# Altium footprint library Activos.PcbLib: 60 footprints (part 2 of 4)
Each footprint in its own frame and in the unit in brackets; x right, y up, seen from the top. Pads: shape width x height; smd on the part's side, far side on the other; paste and mask are expansions set on the pad; w line width, h text height; cw(c..) or ccw(c..) is an arc to the next point about the centre after c.
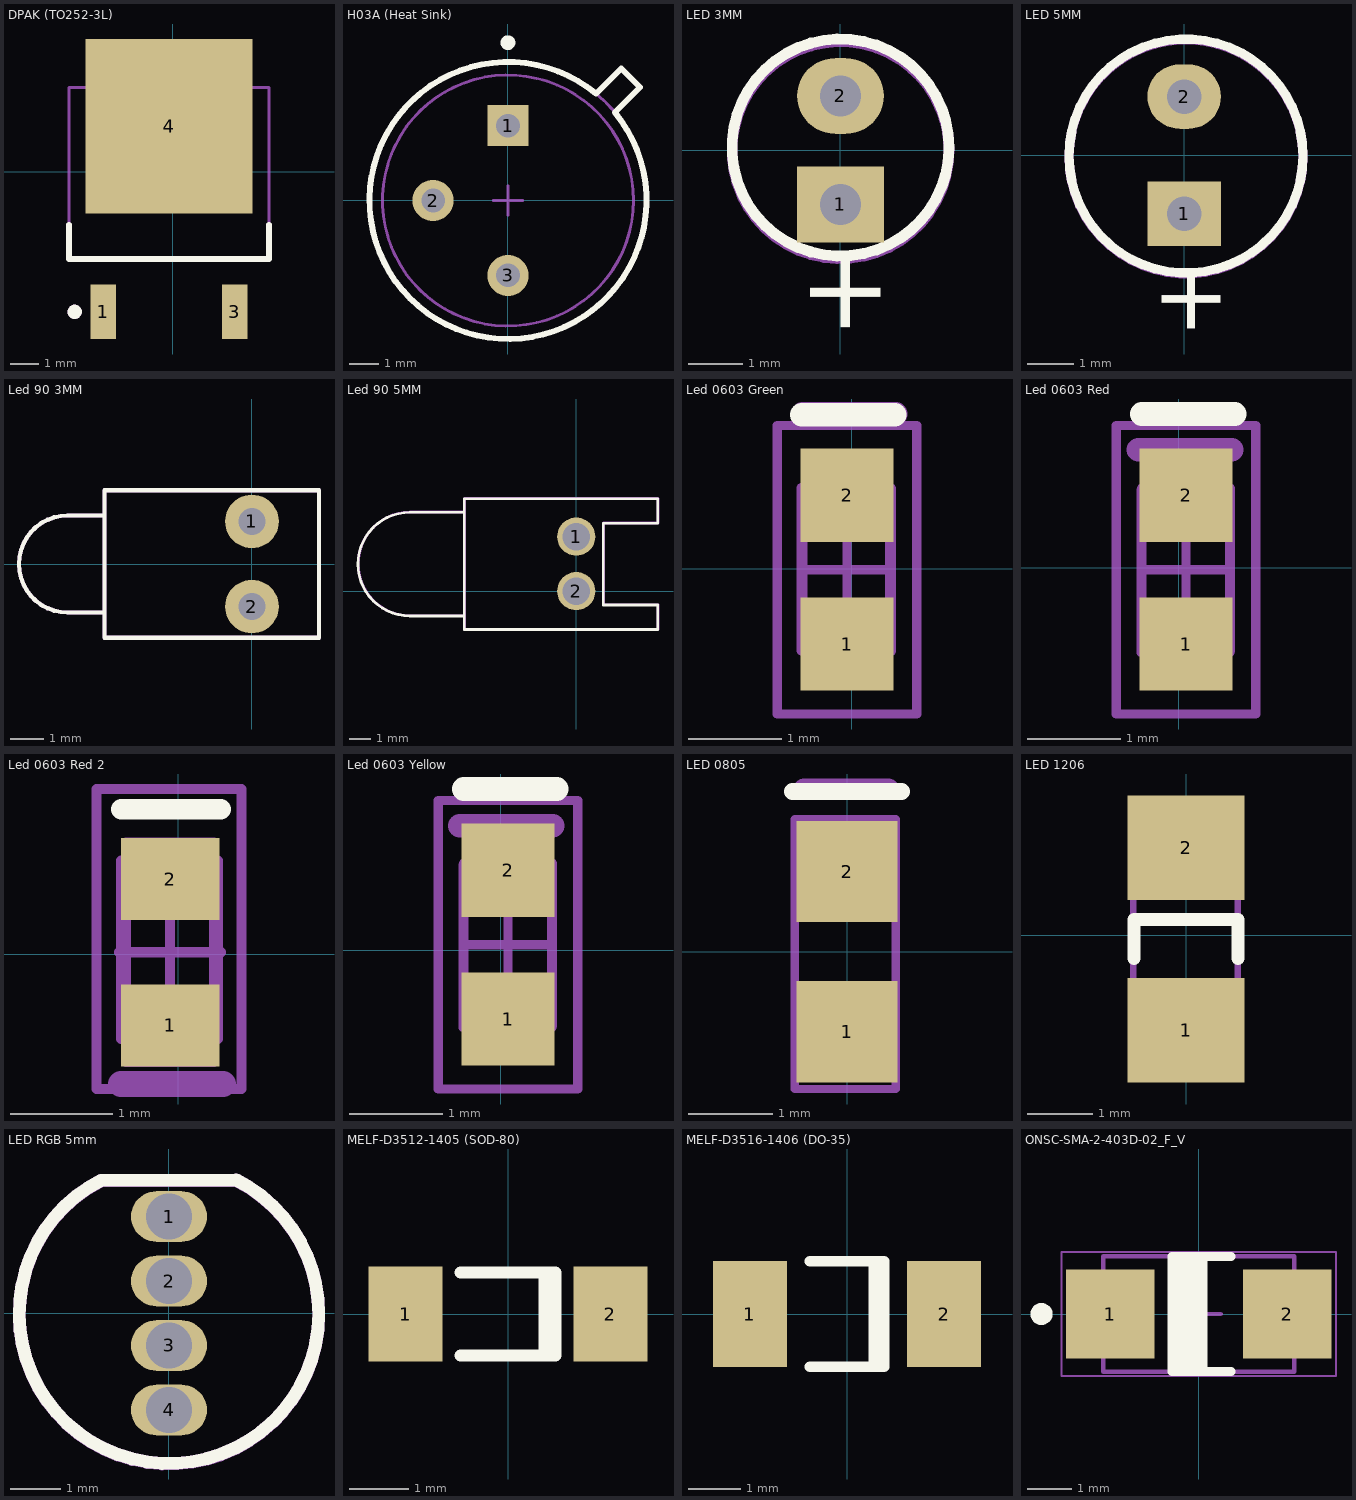
[diagram p1: the footprints below, top view; thin cyan lines are the x and y axes]

## DPAK (TO252-3L) [mm]
pads (3):
  rect 0.9x1.9 smd: 1(-2.433,-4.905) 3(2.167,-4.905)
  rect 5.85x6.1 smd: 4(-0.133,1.595)
Top Overlay:
  circle w0.25: c-3.433,-4.905 r0.125
  lines w0.2: -3.633,-1.855 -3.633,-3.055 3.367,-3.055 3.367,-1.855
Mechanical 15:
  lines w0.1: -0.633,-0.605 0.367,-0.605 ; -0.133,-1.105 -0.133,-0.105
Mechanical 29:
  circle w0.25: c-3.433,-4.905 r0.125
  lines w0.1: -3.633,-3.055 -3.633,2.945 3.367,2.945 3.367,-3.055 -3.633,-3.055
  text "'.Designator'" at -2.94,-2.43 h0.5
3D body "DPAK - TO-369A-13.step": height 2.4, standoff 0, extent -3.468,-5.605 3.132,4.495

## H03A (Heat Sink) [mm]
pads (3):
  rect 1.4x1.4 hole 0.8: 1(0.002,2.531)
  round 1.4 hole 0.8: 2(-2.538,-0.009) 3(0.002,-2.549)
Top Overlay:
  circle w0.25: c0.002,5.341 r0.125
  lines w0.2: 2.989,3.613 ccw(c0.002,-0.009) 3.624,2.978 ; 2.992,3.617 3.84,4.466 4.477,3.829 3.628,2.981
Mechanical 13:
  circle w0.1: c0.002,-0.009 r4.695
  circle w0.1: c0.002,-0.009 r4.255
Mechanical 15:
  lines w0.1: -0.498,-0.009 0.502,-0.009 ; 0.002,-0.509 0.002,0.491
3D body "LM117H & Disipador.STEP": height 10.48, standoff -9.74, extent -6.028,-5.991 5.968,6.009

## LED 3MM [mm]
pads (2):
  rect 1.6x1.4 hole 0.75: 1(0,-1)
  oval 1.6x1.4 hole 0.75: 2(0,1)
Top Overlay:
  circle w0.2: c0,0.05 r2
  text "+" at 0.74,-3.48 h1.5
Mechanical 29:
  circle w0.2: c0,0 r2
  text "'.Designator'" at -1.656,-0.091 h0.5
  text "+" at 0.74,-3.53 h1.5
3D body "LEDd3R.STEP": height 5.51, standoff -2.49, extent -1.701,-1.679 1.587,1.621

## LED 5MM [mm]
pads (2):
  rect 1.6x1.4 hole 0.75: 1(0,-1.27)
  oval 1.6x1.4 hole 0.75: 2(0,1.27)
Top Overlay:
  circle w0.2: c0.04,-0.02 r2.54
  text "+" at 0.79,-3.995 h1.5
Mechanical 29:
  circle w0.2: c0.04,-0.04 r2.54
  text "+" at 0.79,-4.015 h1.5
  text "'.Designator'" at -2.066,-0.181 h0.5
3D body "5MM LED RED.step": height 9.6, standoff -4, extent -2.53,-2.56 2.57,2.54

## Led 90 3MM [mm]
pads (2):
  round 1.6 hole 0.8: 1(0,1.27) 2(0,-1.27)
Top Overlay:
  lines w0.127: -4.4,-1.45 -5.5,-1.45 cw(c-5.5,0) -5.5,1.45 -4.4,1.45 ; -4.4,-2.2 2,-2.2 2,2.2 -4.4,2.2 -4.4,-2.2
Mechanical 29:
  lines w0.127: -4.4,-1.45 -5.5,-1.45 cw(c-5.5,0) -5.5,1.45 -4.4,1.45 ; -4.4,-2.2 -4.4,2.2 2,2.2 2,-2.2 -4.4,-2.2
  text "'.Designator'" at -4.086,-0.211 h0.5
3D body "Led 90 3MM.step": height 7.37, standoff -2.54, extent -7.518,-2.286 0.914,2.286

## Led 90 5MM [mil] "Led a 90 grados"
pads (2):
  round 70 hole 50: 1(0,100) 2(0,0)
Top Overlay:
  lines w5: -205.39,-45.39 -305.39,-45.39 cw(c-305.39,49.61) -305.39,144.61 -205.39,144.61 ; -205.39,-70.39 149.61,-70.39 149.61,-25.39 49.61,-25.39 49.61,124.61 149.61,124.61 149.61,169.61 -205.39,169.61 -205.39,-70.39
Mechanical 29:
  lines w5: -205,-45 -305,-45 cw(c-305,50) -305,145 -205,145 ; -205,-70 -205,170 150,170 150,125 50,125 50,-25 150,-25 150,-70 -205,-70
  text "'.Designator'" at -192.91,42.52 h19.68
3D body "Led 90 grados.step": height 246.06, standoff -139.09, extent -400.98,-75 150.98,165.16

## Led 0603 Green [mm]
pads (2):
  rect 1x1 smd: 1(-0.05,-0.81) 2(-0.05,0.79)
Top Overlay:
  lines w0.254: -0.536,1.656 0.464,1.656
Mechanical 15:
  lines w0.1: -0.525,-0.01 0.425,-0.01 ; -0.05,-0.485 -0.05,0.465 ; -0.8,-1.56 0.7,-1.56 0.7,1.54 -0.8,1.54 -0.8,-1.56
Mechanical 29:
  lines w0.1: -0.54,-0.88 0.41,-0.88 0.41,0.87 -0.54,0.87 -0.54,-0.88 ; -0.525,-0.885 0.425,-0.885 0.425,0.865 -0.525,0.865 -0.525,-0.885
  lines w0.254: -0.526,1.663 0.474,1.663
  text "'.Designator'" at -0.317,0.705 h0.5
3D body "LED_0603_G.STEP": height 0.6, standoff 0, extent -0.45,-0.81 0.35,0.79

## Led 0603 Red [mm]
pads (2):
  rect 1x1 smd: 1(0.08,-0.82) 2(0.08,0.78)
Top Overlay:
  lines w0.254: -0.396,1.653 0.604,1.653
Mechanical 13:
  lines w0.1: -0.395,-0.895 0.555,-0.895 0.555,0.855 -0.395,0.855 -0.395,-0.895
Mechanical 15:
  lines w0.1: -0.395,-0.02 0.555,-0.02 ; 0.08,-0.495 0.08,0.455 ; -0.67,-1.57 0.83,-1.57 0.83,1.53 -0.67,1.53 -0.67,-1.57
Mechanical 29:
  lines w0.1: -0.4,-0.91 0.55,-0.91 0.55,0.84 -0.4,0.84 -0.4,-0.91
  lines w0.254: -0.43,1.27 0.57,1.27
  text "'.Designator'" at -0.177,0.675 h0.5
3D body "LED_0603_R.STEP": height 0.6, standoff 0, extent -0.32,-0.82 0.48,0.78

## Led 0603 Red 2 [mm]
pads (2):
  rect 0.965x0.8 smd: 1(-0.08,-0.697) 2(-0.08,0.737)
Top Overlay:
  lines w0.2: -0.56,1.42 0.42,1.42
Mechanical 13:
  lines w0.1: -0.51,-1.055 0.35,-1.055 0.35,1.095 -0.51,1.095 -0.51,-1.055
Mechanical 15:
  lines w0.1: -0.58,0.02 0.42,0.02 ; -0.08,-0.48 -0.08,0.52 ; -0.8,-1.32 0.62,-1.32 0.62,1.62 -0.8,1.62 -0.8,-1.32
Mechanical 29:
  lines w0.1: -0.56,-0.83 0.39,-0.83 0.39,0.92 -0.56,0.92 -0.56,-0.83
  lines w0.254: -0.56,-1.27 0.44,-1.27
  text "'.Designator'" at 0.167,-0.665 h0.5
3D body "LED_0603_R.STEP": height 0.6, standoff 0, extent -0.46,-0.75 0.34,0.85

## Led 0603 Yellow [mm]
pads (2):
  rect 1x1 smd: 1(0.08,-0.74) 2(0.08,0.86)
Top Overlay:
  lines w0.254: -0.396,1.733 0.604,1.733
Mechanical 13:
  lines w0.1: -0.395,-0.815 0.555,-0.815 0.555,0.935 -0.395,0.935 -0.395,-0.815
Mechanical 15:
  lines w0.1: -0.395,0.06 0.555,0.06 ; 0.08,-0.415 0.08,0.535 ; -0.67,-1.49 0.83,-1.49 0.83,1.61 -0.67,1.61 -0.67,-1.49
Mechanical 29:
  lines w0.1: -0.4,-0.83 -0.4,0.92 0.55,0.92 0.55,-0.83 -0.4,-0.83
  lines w0.254: -0.44,1.34 0.56,1.34
  text "'.Designator'" at 0.08,0.03 h0.5
3D body "LED_0603_Y.STEP": height 0.6, standoff 0, extent -0.32,-0.74 0.48,0.86

## LED 0805 [mm] "Chip Diode; Body 2.0 x 1.3 mm (LxW typ)"
height 1.1
pads (2):
  rect 1.2x1.2 smd: 1(0,-0.95) 2(0,0.95)
Top Overlay:
  lines w0.2: -0.65,1.9 0.65,1.9
Mechanical 29:
  lines w0.1: -0.62,-1.63 0.58,-1.63 0.58,1.57 -0.62,1.57 -0.62,-1.63
  lines w0.254: -0.51,1.93 0.49,1.93
3D body "led_0805.step": height 1.1, standoff 0, extent -0.625,-1.01 0.625,1.01

## LED 1206 [mm]
pads (2):
  rect 1.8x1.6 smd: 1(0,-1.46) 2(0,1.34)
Top Overlay:
  lines w0.2: -0.8,-0.36 -0.8,0.24 0.8,0.24 0.8,-0.36
Mechanical 29:
  lines w0.1: -0.81,1.65 0.79,1.65 ; -0.81,-2.18 0.79,-2.18 0.79,1.99 -0.81,1.99 -0.81,-2.18
  text "'.Designator'" at 0.257,-0.695 h0.5
3D body "LED1206R.STEP": height 1.11, standoff -0.4, extent -0.802,-1.753 0.798,1.447

## LED RGB 5mm [mm] "Tipo WP154A4SUREQBFZGC"
pads (4):
  oval 1.5x1 hole 0.9: 1(0,1.905) 2(0,0.635) 3(0,-0.635) 4(0,-1.905)
Top Overlay:
  lines w0.254: 1.311,2.621 -1.335,2.621 ccw(c0,-0.01) 1.319,2.629
Mechanical 29:
  lines w0.254: 1.311,2.611 -1.335,2.611 ccw(c0,-0.02) 1.319,2.619
  text "'.Designator'" at -0.365,-0.017 h0.5
Mechanical 30:
  lines w0.254: 1.311,2.621 -1.335,2.621 ccw(c0,-0.01) 1.319,2.629
  text "'.Designator'" at -0.365,-0.007 h0.5
3D body "WP154A4.STEP": height 13.6, standoff -3.6, extent -2.91,-2.925 2.99,2.525

## MELF-D3512-1405 (SOD-80) [mm] "Metal Electrode Face (MELF) Diode; Body 3.5 x 1.5 mm (LxDia)"
height 1.5
pads (2):
  rect 1.25x1.6 smd: 1(-1.725,0) 2(1.725,0)
Top Overlay:
  lines w0.2: -0.8,-0.7 0.8,-0.7 0.8,0.7 -0.8,0.7 ; 0.61,-0.7 0.61,0.7
3D body "MELF-2.STEP": height 1.57, standoff -0.03, extent -1.86,-0.8 1.84,0.8

## MELF-D3516-1406 (DO-35) [mm] "DO-213AA/DO-35/DO-204AH, Body 3.5 x 1.7 mm (LxDia)"
height 1.7
pads (2):
  rect 1.4x2 smd: 1(-1.84,0) 2(1.84,0)
Top Overlay:
  lines w0.2: -0.7,-1 0.7,-1 ; -0.7,1 0.7,1 0.7,-0.96 ; 0.51,-0.96 0.51,0.94
3D body "MiniMelf-2.step": height 1.56, standoff -0.04, extent -1.91,-0.78 1.79,0.82

## ONSC-SMA-2-403D-02_F_V [mm] "Molded, 2-Leads, Body 4.32x2.6mm"
height 2.2
pads (2):
  rect 2x2 smd: 1(-2,0) 2(2,0)
Top Overlay:
  circle w0.25: c-3.55,0 r0.125
  rectangle: -0.578,-1.3 0.199,1.3
  lines w0.2: 0.736,-1.3 -0.6,-1.3 -0.6,1.3 ; 0.736,1.3 -0.6,1.3 ; -0.6,1.3 -0.6,1.3
Mechanical 13:
  lines w0.1: -2.16,-1.3 2.16,-1.3 2.16,1.3 -2.16,1.3 -2.16,-1.3
Mechanical 15:
  lines w0.05: -3.1,-1.4 -3.1,1.4 3.1,1.4 3.1,-1.4 -3.1,-1.4
  lines w0.1: -0.5,0 0.5,0 ; 0,-0.5 0,0.5
3D body: height 2.2, standoff 0.05, extent -2.16,-1.3 2.16,1.3